# EAGLE library part SN65LVDST32 (library diskohedron)
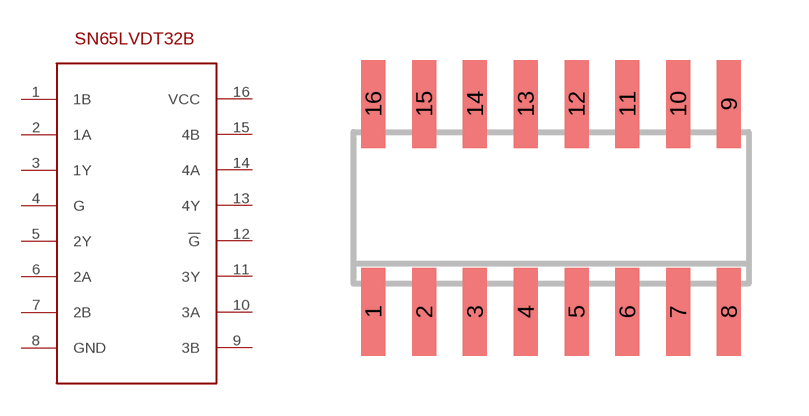
[diagram p1: symbol with the pads of SOIC16; footprint SOIC16]

Designator prefix -

## SN65LVDST32  [SOIC16]
1  1B
2  1A
3  1Y
4  G
5  2Y
6  2A
7  2B
8  GND
9  3B
10  3A
11  3Y
12  !G
13  4Y
14  4A
15  4B
16  VCC

## Footprint SOIC16 (pad centres in mm)
smd 0.6 x 2.2: 1 -4.445,-2.6; 2 -3.175,-2.6; 3 -1.905,-2.6; 4 -0.635,-2.6; 5 0.635,-2.6; 6 1.905,-2.6; 7 3.175,-2.6; 8 4.445,-2.6; 9 4.445,2.6; 10 3.175,2.6; 11 1.905,2.6; 12 0.635,2.6; 13 -0.635,2.6; 14 -1.905,2.6; 15 -3.175,2.6; 16 -4.445,2.6